# Altium schematic symbol library Molex 105310-1108 Limit Switch Connector.SchLib: 2 symbols
Pins are listed as number, name and electrical type; pins without a type are passive.

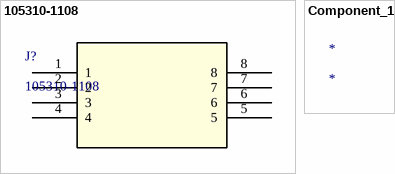
[diagram p0: symbols 105310-1108 to Component_1]

## 105310-1108
designator J?
No Description Available; SourceLibrary: Molex_Connector_corporation_2020-02-27; Vendor: Molex Connector Corporation; Built_By: EMA_Colton; Datasheet: https://www.molex.com/pdm_docs/sd/1053101210_sd.pdf; Manufacturer_Part_Number: 105310-1108; Copyright: Copyright (C) 2018 Accelerated Designs. All rights reserved; RefDes: RefDes; Type: DEV
footprint 105310-1108_MOL
pins: 1, 2, 3, 4, 5, 6, 7, 8

## Component_1
designator *